# Altium footprint library Relays.PcbLib: 2 footprints
Each footprint in its own frame and in the unit in brackets; x right, y up, seen from the top. Pads: shape width x height; smd on the part's side, far side on the other; paste and mask are expansions set on the pad; w line width, h text height; cw(c..) or ccw(c..) is an arc to the next point about the centre after c.
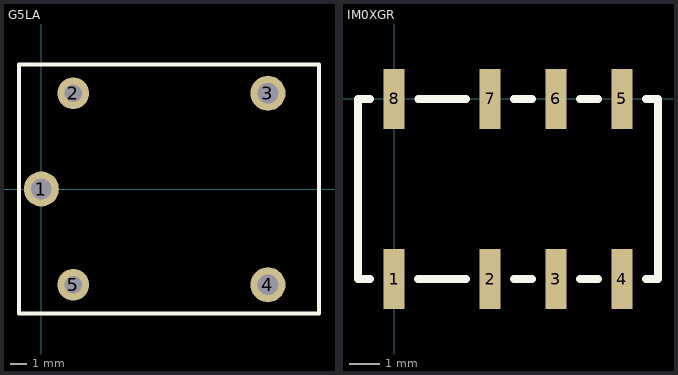
[diagram p0: the footprints below, top view; thin cyan lines are the x and y axes]

## G5LA [mm] "Cubic, Single-pole 10A Power Relay"
height 15.8
pads (5):
  round 2.2 hole 1.3: 1(0,0) 3(14.2,6) 4(14.2,-6)
  round 2 hole 1.1: 2(2,6) 5(2,-6)
Top Overlay:
  lines w0.254: -1.4,-7.8 -1.4,7.8 17.399,7.8 17.399,6.604 17.399,-7.8 15.621,-7.8 -1.4,-7.8
3D body "User Library-RELE.STEP": height 15, standoff -3, extent -1.593,-7.95 17.907,7.95

## IM0XGR [mm] "IM 1-pole, 2 Form C, SMT, Gull Wings"
height 5.65
pads (8):
  rect 0.7x2 smd: 1(0,-6) 2(3.2,-6) 3(5.4,-6) 4(7.6,-6) 5(7.6,0) 6(5.4,0) 7(3.2,0) 8(0,0)
Top Overlay:
  lines w0.254: -0.8,-6 -1.2,-6 -1.2,0 -0.8,0 ; 0.8,-6 2.4,-6 ; 0.803,0 2.4,0 ; 4,-6 4.6,-6 ; 4,0 4.6,0 ; 6.2,-6 6.8,-6 ; 6.2,0 6.8,0 ; 8.4,-6 8.8,-6 8.8,0 8.4,0
3D body "IM07CGR.STEP": height 5.65, standoff 0, extent -1.2,-6.758 8.8,0.758